# Altium schematic symbol library ferrite_bead.SchLib: 1 symbol
Pins are listed as number, name and electrical type; pins without a type are passive.

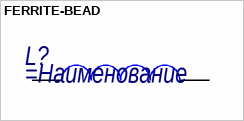
[diagram p0: symbol FERRITE-BEAD]

## FERRITE-BEAD
designator L?
=Описание
pins: 1, 2